# EAGLE library part 5X2RIBBONCONNECTOR (library RSC-16)
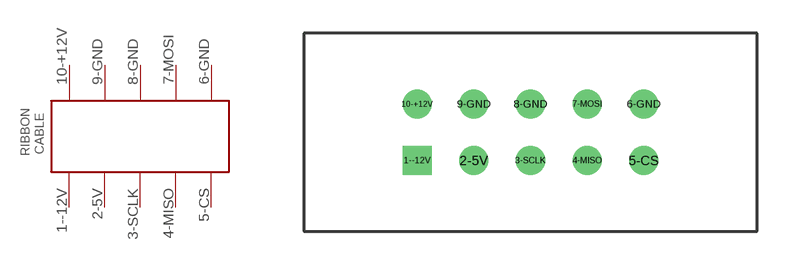
[diagram p1: symbol with the pads of 5X2RIBBONCONNECTOR; footprint 5X2RIBBONCONNECTOR]

Designator prefix -

## 5X2RIBBONCONNECTOR  [5X2RIBBONCONNECTOR]
1--12V  1--12V
2-5V  2-5V
3-SCLK  3-SCLK
4-MISO  4-MISO
5-CS  5-CS
6-GND  6-GND
7-MOSI  7-MOSI
8-GND  8-GND
9-GND  9-GND
10-+12V  10-+12V

## Footprint 5X2RIBBONCONNECTOR (pad centres in mm)
drill 0.8 square: 1--12V -5.08,-1.27
drill 0.8: 2-5V -2.54,-1.27; 3-SCLK 0,-1.27; 4-MISO 2.54,-1.27; 5-CS 5.08,-1.27; 6-GND 5.08,1.27; 7-MOSI 2.54,1.27; 8-GND 0,1.27; 9-GND -2.54,1.27; 10-+12V -5.08,1.27